# Altium footprint library SOP.PcbLib: 214 footprints (part 2 of 14)
Each footprint in its own frame and in the unit in brackets; x right, y up, seen from the top. Pads: shape width x height; smd on the part's side, far side on the other; paste and mask are expansions set on the pad; w line width, h text height; cw(c..) or ccw(c..) is an arc to the next point about the centre after c.
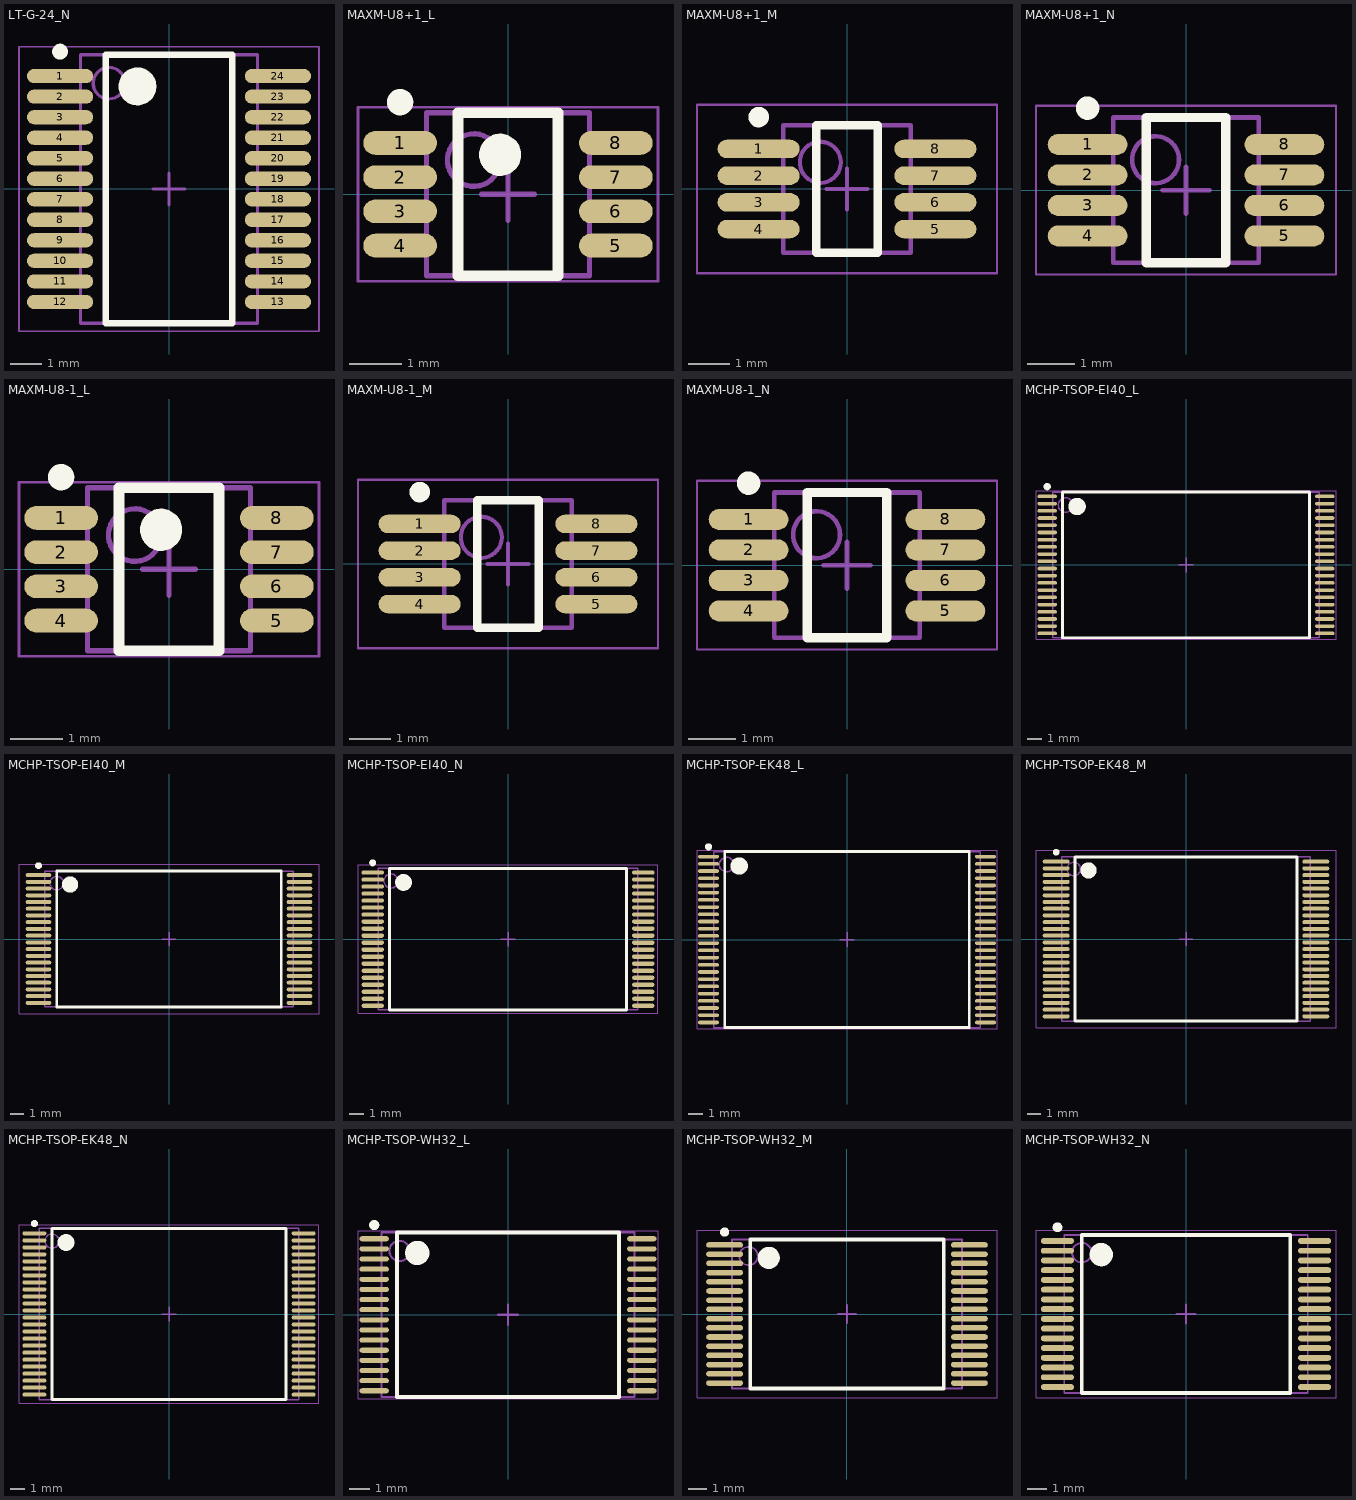
[diagram p1: the footprints below, top view; thin cyan lines are the x and y axes]

## LT-G-24_N [mm] "SOP, 24-Leads, Body 8.5x5.6mm, Pitch 0.65mm, IPC Medium Density"
height 2
pads (24):
  oval 2.1x0.45 smd: 1(-3.45,3.575) 2(-3.45,2.925) 3(-3.45,2.275) 4(-3.45,1.625) 5(-3.45,0.975) 6(-3.45,0.325) 7(-3.45,-0.325) 8(-3.45,-0.975) 9(-3.45,-1.625) 10(-3.45,-2.275) 11(-3.45,-2.925) 12(-3.45,-3.575) 13(3.45,-3.575) 14(3.45,-2.925) 15(3.45,-2.275) 16(3.45,-1.625) 17(3.45,-0.975) 18(3.45,-0.325) 19(3.45,0.325) 20(3.45,0.975) 21(3.45,1.625) 22(3.45,2.275) 23(3.45,2.925) 24(3.45,3.575)
Top Overlay:
  circle w0.25: c-3.45,4.35 r0.125
  circle w0.6: c-1,3.25 r0.3
  lines w0.2: -2,-4.25 -2,4.25 2,4.25 2,-4.25 -2,-4.25
Mechanical 13:
  circle w0.1: c-1.9,3.35 r0.5
  lines w0.1: -2.8,-4.25 -2.8,4.25 2.8,4.25 2.8,-4.25 -2.8,-4.25
Mechanical 15:
  lines w0.05: -4.75,-4.5 -4.75,4.5 4.75,4.5 4.75,-4.5 -4.75,-4.5
  lines w0.1: -0.5,0 0.5,0 ; 0,-0.5 0,0.5
3D body: height 2, standoff 0.05, extent -2.8,-4.25 2.8,4.25

## MAXM-U8+1_L [mm] "SOP, 8-Leads, Body 3x3mm, Pitch 0.65mm, IPC High Density"
height 1.1
pads (8):
  oval 1.4x0.45 smd: 1(-2.05,0.975) 2(-2.05,0.325) 3(-2.05,-0.325) 4(-2.05,-0.975) 5(2.05,-0.975) 6(2.05,-0.325) 7(2.05,0.325) 8(2.05,0.975)
Top Overlay:
  circle w0.4: c-0.15,0.75 r0.2
  circle w0.25: c-2.05,1.75 r0.125
  lines w0.2: -0.95,-1.55 0.95,-1.55 0.95,1.55 -0.95,1.55 -0.95,-1.55
Mechanical 13:
  circle w0.1: c-0.65,0.65 r0.5
  lines w0.1: -1.55,-1.55 1.55,-1.55 1.55,1.55 -1.55,1.55 -1.55,-1.55
Mechanical 15:
  lines w0.05: -2.85,-1.65 2.85,-1.65 2.85,1.65 -2.85,1.65 -2.85,-1.65
  lines w0.1: -0.5,0 0.5,0 ; 0,-0.5 0,0.5
3D body: height 1.1, standoff 0.05, extent -1.55,-1.55 1.55,1.55

## MAXM-U8+1_M [mm] "SOP, 8-Leads, Body 3x3mm, Pitch 0.65mm, IPC Low Density"
height 1.1
pads (8):
  oval 2x0.45 smd: 1(-2.15,0.975) 2(-2.15,0.325) 3(-2.15,-0.325) 4(-2.15,-0.975) 5(2.15,-0.975) 6(2.15,-0.325) 7(2.15,0.325) 8(2.15,0.975)
Top Overlay:
  circle w0.25: c-2.15,1.75 r0.125
  lines w0.2: -0.75,-1.55 -0.75,1.55 0.75,1.55 0.75,-1.55 -0.75,-1.55
Mechanical 13:
  circle w0.1: c-0.65,0.65 r0.5
  lines w0.1: -1.55,-1.55 -1.55,1.55 1.55,1.55 1.55,-1.55 -1.55,-1.55
Mechanical 15:
  lines w0.05: -3.65,-2.05 -3.65,2.05 3.65,2.05 3.65,-2.05 -3.65,-2.05
  lines w0.1: -0.5,0 0.5,0 ; 0,-0.5 0,0.5
3D body: height 1.1, standoff 0.05, extent -1.55,-1.55 1.55,1.55

## MAXM-U8+1_N [mm] "SOP, 8-Leads, Body 3x3mm, Pitch 0.65mm, IPC Medium Density"
height 1.1
pads (8):
  oval 1.7x0.45 smd: 1(-2.1,0.975) 2(-2.1,0.325) 3(-2.1,-0.325) 4(-2.1,-0.975) 5(2.1,-0.975) 6(2.1,-0.325) 7(2.1,0.325) 8(2.1,0.975)
Top Overlay:
  circle w0.25: c-2.1,1.75 r0.125
  lines w0.2: -0.85,-1.55 -0.85,1.55 0.85,1.55 0.85,-1.55 -0.85,-1.55
Mechanical 13:
  circle w0.1: c-0.65,0.65 r0.5
  lines w0.1: -1.55,-1.55 -1.55,1.55 1.55,1.55 1.55,-1.55 -1.55,-1.55
Mechanical 15:
  lines w0.05: -3.2,-1.8 -3.2,1.8 3.2,1.8 3.2,-1.8 -3.2,-1.8
  lines w0.1: -0.5,0 0.5,0 ; 0,-0.5 0,0.5
3D body: height 1.1, standoff 0.05, extent -1.55,-1.55 1.55,1.55

## MAXM-U8-1_L [mm] "SOP, 8-Leads, Body 3x3mm, Pitch 0.65mm, IPC High Density"
height 1.1
pads (8):
  oval 1.4x0.45 smd: 1(-2.05,0.975) 2(-2.05,0.325) 3(-2.05,-0.325) 4(-2.05,-0.975) 5(2.05,-0.975) 6(2.05,-0.325) 7(2.05,0.325) 8(2.05,0.975)
Top Overlay:
  circle w0.25: c-2.05,1.75 r0.125
  circle w0.4: c-0.15,0.75 r0.2
  lines w0.2: -0.95,-1.55 -0.95,1.55 0.95,1.55 0.95,-1.55 -0.95,-1.55
Mechanical 13:
  circle w0.1: c-0.65,0.65 r0.5
  lines w0.1: -1.55,-1.55 -1.55,1.55 1.55,1.55 1.55,-1.55 -1.55,-1.55
Mechanical 15:
  lines w0.05: -2.85,-1.65 -2.85,1.65 2.85,1.65 2.85,-1.65 -2.85,-1.65
  lines w0.1: -0.5,0 0.5,0 ; 0,-0.5 0,0.5
3D body: height 1.1, standoff 0.05, extent -1.55,-1.55 1.55,1.55

## MAXM-U8-1_M [mm] "SOP, 8-Leads, Body 3x3mm, Pitch 0.65mm, IPC Low Density"
height 1.1
pads (8):
  oval 2x0.45 smd: 1(-2.15,0.975) 2(-2.15,0.325) 3(-2.15,-0.325) 4(-2.15,-0.975) 5(2.15,-0.975) 6(2.15,-0.325) 7(2.15,0.325) 8(2.15,0.975)
Top Overlay:
  circle w0.25: c-2.15,1.75 r0.125
  lines w0.2: -0.75,-1.55 0.75,-1.55 0.75,1.55 -0.75,1.55 -0.75,-1.55
Mechanical 13:
  circle w0.1: c-0.65,0.65 r0.5
  lines w0.1: -1.55,-1.55 1.55,-1.55 1.55,1.55 -1.55,1.55 -1.55,-1.55
Mechanical 15:
  lines w0.05: -3.65,-2.05 3.65,-2.05 3.65,2.05 -3.65,2.05 -3.65,-2.05
  lines w0.1: -0.5,0 0.5,0 ; 0,-0.5 0,0.5
3D body: height 1.1, standoff 0.05, extent -1.55,-1.55 1.55,1.55

## MAXM-U8-1_N [mm] "SOP, 8-Leads, Body 3x3mm, Pitch 0.65mm, IPC Medium Density"
height 1.1
pads (8):
  oval 1.7x0.45 smd: 1(-2.1,0.975) 2(-2.1,0.325) 3(-2.1,-0.325) 4(-2.1,-0.975) 5(2.1,-0.975) 6(2.1,-0.325) 7(2.1,0.325) 8(2.1,0.975)
Top Overlay:
  circle w0.25: c-2.1,1.75 r0.125
  lines w0.2: -0.85,-1.55 -0.85,1.55 0.85,1.55 0.85,-1.55 -0.85,-1.55
Mechanical 13:
  circle w0.1: c-0.65,0.65 r0.5
  lines w0.1: -1.55,-1.55 -1.55,1.55 1.55,1.55 1.55,-1.55 -1.55,-1.55
Mechanical 15:
  lines w0.05: -3.2,-1.8 -3.2,1.8 3.2,1.8 3.2,-1.8 -3.2,-1.8
  lines w0.1: -0.5,0 0.5,0 ; 0,-0.5 0,0.5
3D body: height 1.1, standoff 0.05, extent -1.55,-1.55 1.55,1.55

## MCHP-TSOP-EI40_L [mm] "SOP, 40-Leads, Body 18.4x10mm, Pitch 0.5mm, IPC High Density"
height 1.2
pads (40):
  oval 1.35x0.25 smd: 1(-9.625,4.75) 2(-9.625,4.25) 3(-9.625,3.75) 4(-9.625,3.25) 5(-9.625,2.75) 6(-9.625,2.25) 7(-9.625,1.75) 8(-9.625,1.25) 9(-9.625,0.75) 10(-9.625,0.25) 11(-9.625,-0.25) 12(-9.625,-0.75) 13(-9.625,-1.25) 14(-9.625,-1.75) 15(-9.625,-2.25) 16(-9.625,-2.75) 17(-9.625,-3.25) 18(-9.625,-3.75) 19(-9.625,-4.25) 20(-9.625,-4.75) 21(9.625,-4.75) 22(9.625,-4.25) 23(9.625,-3.75) 24(9.625,-3.25) 25(9.625,-2.75) 26(9.625,-2.25) 27(9.625,-1.75) 28(9.625,-1.25) 29(9.625,-0.75) 30(9.625,-0.25) 31(9.625,0.25) 32(9.625,0.75) 33(9.625,1.25) 34(9.625,1.75) 35(9.625,2.25) 36(9.625,2.75) 37(9.625,3.25) 38(9.625,3.75) 39(9.625,4.25) 40(9.625,4.75)
Top Overlay:
  circle w0.25: c-9.625,5.425 r0.125
  circle w0.6: c-7.55,4.05 r0.3
  lines w0.2: -8.55,-5.05 -8.55,5.05 8.55,5.05 8.55,-5.05 -8.55,-5.05
Mechanical 13:
  circle w0.1: c-8.35,4.15 r0.5
  lines w0.1: -9.25,-5.05 -9.25,5.05 9.25,5.05 9.25,-5.05 -9.25,-5.05
Mechanical 15:
  lines w0.05: -10.4,-5.15 -10.4,5.15 10.4,5.15 10.4,-5.15 -10.4,-5.15
  lines w0.1: -0.5,0 0.5,0 ; 0,-0.5 0,0.5
3D body: height 1.2, standoff 0.05, extent -9.25,-5.05 9.25,5.05

## MCHP-TSOP-EI40_M [mm] "SOP, 40-Leads, Body 18.4x10mm, Pitch 0.5mm, IPC Low Density"
height 1.2
pads (40):
  oval 1.9x0.3 smd: 1(-9.7,4.75) 2(-9.7,4.25) 3(-9.7,3.75) 4(-9.7,3.25) 5(-9.7,2.75) 6(-9.7,2.25) 7(-9.7,1.75) 8(-9.7,1.25) 9(-9.7,0.75) 10(-9.7,0.25) 11(-9.7,-0.25) 12(-9.7,-0.75) 13(-9.7,-1.25) 14(-9.7,-1.75) 15(-9.7,-2.25) 16(-9.7,-2.75) 17(-9.7,-3.25) 18(-9.7,-3.75) 19(-9.7,-4.25) 20(-9.7,-4.75) 21(9.7,-4.75) 22(9.7,-4.25) 23(9.7,-3.75) 24(9.7,-3.25) 25(9.7,-2.75) 26(9.7,-2.25) 27(9.7,-1.75) 28(9.7,-1.25) 29(9.7,-0.75) 30(9.7,-0.25) 31(9.7,0.25) 32(9.7,0.75) 33(9.7,1.25) 34(9.7,1.75) 35(9.7,2.25) 36(9.7,2.75) 37(9.7,3.25) 38(9.7,3.75) 39(9.7,4.25) 40(9.7,4.75)
Top Overlay:
  circle w0.6: c-7.35,4.05 r0.3
  circle w0.25: c-9.7,5.45 r0.125
  lines w0.2: -8.35,-5.05 8.35,-5.05 8.35,5.05 -8.35,5.05 -8.35,-5.05
Mechanical 13:
  circle w0.1: c-8.35,4.15 r0.5
  lines w0.1: -9.25,-5.05 9.25,-5.05 9.25,5.05 -9.25,5.05 -9.25,-5.05
Mechanical 15:
  lines w0.05: -11.15,-5.55 11.15,-5.55 11.15,5.55 -11.15,5.55 -11.15,-5.55
  lines w0.1: -0.5,0 0.5,0 ; 0,-0.5 0,0.5
3D body: height 1.2, standoff 0.05, extent -9.25,-5.05 9.25,5.05

## MCHP-TSOP-EI40_N [mm] "SOP, 40-Leads, Body 18.4x10mm, Pitch 0.5mm, IPC Medium Density"
height 1.2
pads (40):
  oval 1.6x0.3 smd: 1(-9.65,4.75) 2(-9.65,4.25) 3(-9.65,3.75) 4(-9.65,3.25) 5(-9.65,2.75) 6(-9.65,2.25) 7(-9.65,1.75) 8(-9.65,1.25) 9(-9.65,0.75) 10(-9.65,0.25) 11(-9.65,-0.25) 12(-9.65,-0.75) 13(-9.65,-1.25) 14(-9.65,-1.75) 15(-9.65,-2.25) 16(-9.65,-2.75) 17(-9.65,-3.25) 18(-9.65,-3.75) 19(-9.65,-4.25) 20(-9.65,-4.75) 21(9.65,-4.75) 22(9.65,-4.25) 23(9.65,-3.75) 24(9.65,-3.25) 25(9.65,-2.75) 26(9.65,-2.25) 27(9.65,-1.75) 28(9.65,-1.25) 29(9.65,-0.75) 30(9.65,-0.25) 31(9.65,0.25) 32(9.65,0.75) 33(9.65,1.25) 34(9.65,1.75) 35(9.65,2.25) 36(9.65,2.75) 37(9.65,3.25) 38(9.65,3.75) 39(9.65,4.25) 40(9.65,4.75)
Top Overlay:
  circle w0.6: c-7.45,4.05 r0.3
  circle w0.25: c-9.65,5.45 r0.125
  lines w0.2: -8.45,-5.05 8.45,-5.05 8.45,5.05 -8.45,5.05 -8.45,-5.05
Mechanical 13:
  circle w0.1: c-8.35,4.15 r0.5
  lines w0.1: -9.25,-5.05 9.25,-5.05 9.25,5.05 -9.25,5.05 -9.25,-5.05
Mechanical 15:
  lines w0.05: -10.7,-5.3 10.7,-5.3 10.7,5.3 -10.7,5.3 -10.7,-5.3
  lines w0.1: -0.5,0 0.5,0 ; 0,-0.5 0,0.5
3D body: height 1.2, standoff 0.05, extent -9.25,-5.05 9.25,5.05

## MCHP-TSOP-EK48_L [mm] "SOP, 48-Leads, Body 18.4x12mm, Pitch 0.5mm, IPC High Density"
height 1.2
pads (48):
  oval 1.45x0.25 smd: 1(-9.6,5.75) 2(-9.6,5.25) 3(-9.6,4.75) 4(-9.6,4.25) 5(-9.6,3.75) 6(-9.6,3.25) 7(-9.6,2.75) 8(-9.6,2.25) 9(-9.6,1.75) 10(-9.6,1.25) 11(-9.6,0.75) 12(-9.6,0.25) 13(-9.6,-0.25) 14(-9.6,-0.75) 15(-9.6,-1.25) 16(-9.6,-1.75) 17(-9.6,-2.25) 18(-9.6,-2.75) 19(-9.6,-3.25) 20(-9.6,-3.75) 21(-9.6,-4.25) 22(-9.6,-4.75) 23(-9.6,-5.25) 24(-9.6,-5.75) 25(9.6,-5.75) 26(9.6,-5.25) 27(9.6,-4.75) 28(9.6,-4.25) 29(9.6,-3.75) 30(9.6,-3.25) 31(9.6,-2.75) 32(9.6,-2.25) 33(9.6,-1.75) 34(9.6,-1.25) 35(9.6,-0.75) 36(9.6,-0.25) 37(9.6,0.25) 38(9.6,0.75) 39(9.6,1.25) 40(9.6,1.75) 41(9.6,2.25) 42(9.6,2.75) 43(9.6,3.25) 44(9.6,3.75) 45(9.6,4.25) 46(9.6,4.75) 47(9.6,5.25) 48(9.6,5.75)
Top Overlay:
  circle w0.6: c-7.475,5.1 r0.3
  circle w0.25: c-9.6,6.425 r0.125
  lines w0.2: -8.475,-6.1 8.475,-6.1 8.475,6.1 -8.475,6.1 -8.475,-6.1
Mechanical 13:
  circle w0.1: c-8.35,5.2 r0.5
  lines w0.1: -9.25,-6.1 9.25,-6.1 9.25,6.1 -9.25,6.1 -9.25,-6.1
Mechanical 15:
  lines w0.05: -10.4,-6.2 10.4,-6.2 10.4,6.2 -10.4,6.2 -10.4,-6.2
  lines w0.1: -0.5,0 0.5,0 ; 0,-0.5 0,0.5
3D body: height 1.2, standoff 0.05, extent -9.25,-6.1 9.25,6.1

## MCHP-TSOP-EK48_M [mm] "SOP, 48-Leads, Body 18.4x12mm, Pitch 0.5mm, IPC Low Density,"
height 1.2
pads (48):
  oval 2x0.3 smd: 1(-9.65,5.75) 2(-9.65,5.25) 3(-9.65,4.75) 4(-9.65,4.25) 5(-9.65,3.75) 6(-9.65,3.25) 7(-9.65,2.75) 8(-9.65,2.25) 9(-9.65,1.75) 10(-9.65,1.25) 11(-9.65,0.75) 12(-9.65,0.25) 13(-9.65,-0.25) 14(-9.65,-0.75) 15(-9.65,-1.25) 16(-9.65,-1.75) 17(-9.65,-2.25) 18(-9.65,-2.75) 19(-9.65,-3.25) 20(-9.65,-3.75) 21(-9.65,-4.25) 22(-9.65,-4.75) 23(-9.65,-5.25) 24(-9.65,-5.75) 25(9.65,-5.75) 26(9.65,-5.25) 27(9.65,-4.75) 28(9.65,-4.25) 29(9.65,-3.75) 30(9.65,-3.25) 31(9.65,-2.75) 32(9.65,-2.25) 33(9.65,-1.75) 34(9.65,-1.25) 35(9.65,-0.75) 36(9.65,-0.25) 37(9.65,0.25) 38(9.65,0.75) 39(9.65,1.25) 40(9.65,1.75) 41(9.65,2.25) 42(9.65,2.75) 43(9.65,3.25) 44(9.65,3.75) 45(9.65,4.25) 46(9.65,4.75) 47(9.65,5.25) 48(9.65,5.75)
Top Overlay:
  circle w0.6: c-7.25,5.1 r0.3
  circle w0.25: c-9.65,6.45 r0.125
  lines w0.2: -8.25,-6.1 8.25,-6.1 8.25,6.1 -8.25,6.1 -8.25,-6.1
Mechanical 13:
  circle w0.1: c-8.35,5.2 r0.5
  lines w0.1: -9.25,-6.1 9.25,-6.1 9.25,6.1 -9.25,6.1 -9.25,-6.1
Mechanical 15:
  lines w0.05: -11.15,-6.6 11.15,-6.6 11.15,6.6 -11.15,6.6 -11.15,-6.6
  lines w0.1: -0.5,0 0.5,0 ; 0,-0.5 0,0.5
3D body: height 1.2, standoff 0.05, extent -9.25,-6.1 9.25,6.1

## MCHP-TSOP-EK48_N [mm] "SOP, 48-Leads, Body 18.4x12mm, Pitch 0.5mm, IPC Medium Density,"
height 1.2
pads (48):
  oval 1.7x0.3 smd: 1(-9.6,5.75) 2(-9.6,5.25) 3(-9.6,4.75) 4(-9.6,4.25) 5(-9.6,3.75) 6(-9.6,3.25) 7(-9.6,2.75) 8(-9.6,2.25) 9(-9.6,1.75) 10(-9.6,1.25) 11(-9.6,0.75) 12(-9.6,0.25) 13(-9.6,-0.25) 14(-9.6,-0.75) 15(-9.6,-1.25) 16(-9.6,-1.75) 17(-9.6,-2.25) 18(-9.6,-2.75) 19(-9.6,-3.25) 20(-9.6,-3.75) 21(-9.6,-4.25) 22(-9.6,-4.75) 23(-9.6,-5.25) 24(-9.6,-5.75) 25(9.6,-5.75) 26(9.6,-5.25) 27(9.6,-4.75) 28(9.6,-4.25) 29(9.6,-3.75) 30(9.6,-3.25) 31(9.6,-2.75) 32(9.6,-2.25) 33(9.6,-1.75) 34(9.6,-1.25) 35(9.6,-0.75) 36(9.6,-0.25) 37(9.6,0.25) 38(9.6,0.75) 39(9.6,1.25) 40(9.6,1.75) 41(9.6,2.25) 42(9.6,2.75) 43(9.6,3.25) 44(9.6,3.75) 45(9.6,4.25) 46(9.6,4.75) 47(9.6,5.25) 48(9.6,5.75)
Top Overlay:
  circle w0.6: c-7.35,5.1 r0.3
  circle w0.25: c-9.6,6.45 r0.125
  lines w0.2: -8.35,-6.1 8.35,-6.1 8.35,6.1 -8.35,6.1 -8.35,-6.1
Mechanical 13:
  circle w0.1: c-8.35,5.2 r0.5
  lines w0.1: -9.25,-6.1 9.25,-6.1 9.25,6.1 -9.25,6.1 -9.25,-6.1
Mechanical 15:
  lines w0.05: -10.7,-6.35 10.7,-6.35 10.7,6.35 -10.7,6.35 -10.7,-6.35
  lines w0.1: -0.5,0 0.5,0 ; 0,-0.5 0,0.5
3D body: height 1.2, standoff 0.05, extent -9.25,-6.1 9.25,6.1

## MCHP-TSOP-WH32_L [mm] "SOP, 32-Leads, Body 12.4x8mm, Pitch 0.5mm, IPC High Density"
height 1.2
pads (32):
  oval 1.45x0.25 smd: 1(-6.6,3.75) 2(-6.6,3.25) 3(-6.6,2.75) 4(-6.6,2.25) 5(-6.6,1.75) 6(-6.6,1.25) 7(-6.6,0.75) 8(-6.6,0.25) 9(-6.6,-0.25) 10(-6.6,-0.75) 11(-6.6,-1.25) 12(-6.6,-1.75) 13(-6.6,-2.25) 14(-6.6,-2.75) 15(-6.6,-3.25) 16(-6.6,-3.75) 17(6.6,-3.75) 18(6.6,-3.25) 19(6.6,-2.75) 20(6.6,-2.25) 21(6.6,-1.75) 22(6.6,-1.25) 23(6.6,-0.75) 24(6.6,-0.25) 25(6.6,0.25) 26(6.6,0.75) 27(6.6,1.25) 28(6.6,1.75) 29(6.6,2.25) 30(6.6,2.75) 31(6.6,3.25) 32(6.6,3.75)
Top Overlay:
  circle w0.6: c-4.475,3.05 r0.3
  circle w0.25: c-6.6,4.425 r0.125
  lines w0.2: -5.475,-4.05 5.475,-4.05 5.475,4.05 -5.475,4.05 -5.475,-4.05
Mechanical 13:
  circle w0.1: c-5.35,3.15 r0.5
  lines w0.1: -6.25,-4.05 6.25,-4.05 6.25,4.05 -6.25,4.05 -6.25,-4.05
Mechanical 15:
  lines w0.05: -7.4,-4.15 7.4,-4.15 7.4,4.15 -7.4,4.15 -7.4,-4.15
  lines w0.1: -0.5,0 0.5,0 ; 0,-0.5 0,0.5
3D body: height 1.2, standoff 0.05, extent -6.25,-4.05 6.25,4.05

## MCHP-TSOP-WH32_M [mm] "SOP, 32-Leads, Body 12.4x8mm, Pitch 0.5mm, IPC Low Density"
height 1.2
pads (32):
  oval 2x0.3 smd: 1(-6.65,3.75) 2(-6.65,3.25) 3(-6.65,2.75) 4(-6.65,2.25) 5(-6.65,1.75) 6(-6.65,1.25) 7(-6.65,0.75) 8(-6.65,0.25) 9(-6.65,-0.25) 10(-6.65,-0.75) 11(-6.65,-1.25) 12(-6.65,-1.75) 13(-6.65,-2.25) 14(-6.65,-2.75) 15(-6.65,-3.25) 16(-6.65,-3.75) 17(6.65,-3.75) 18(6.65,-3.25) 19(6.65,-2.75) 20(6.65,-2.25) 21(6.65,-1.75) 22(6.65,-1.25) 23(6.65,-0.75) 24(6.65,-0.25) 25(6.65,0.25) 26(6.65,0.75) 27(6.65,1.25) 28(6.65,1.75) 29(6.65,2.25) 30(6.65,2.75) 31(6.65,3.25) 32(6.65,3.75)
Top Overlay:
  circle w0.6: c-4.25,3.05 r0.3
  circle w0.25: c-6.65,4.45 r0.125
  lines w0.2: -5.25,-4.05 5.25,-4.05 5.25,4.05 -5.25,4.05 -5.25,-4.05
Mechanical 13:
  circle w0.1: c-5.35,3.15 r0.5
  lines w0.1: -6.25,-4.05 6.25,-4.05 6.25,4.05 -6.25,4.05 -6.25,-4.05
Mechanical 15:
  lines w0.05: -8.15,-4.55 8.15,-4.55 8.15,4.55 -8.15,4.55 -8.15,-4.55
  lines w0.1: -0.5,0 0.5,0 ; 0,-0.5 0,0.5
3D body: height 1.2, standoff 0.05, extent -6.25,-4.05 6.25,4.05

## MCHP-TSOP-WH32_N [mm] "SOP, 32-Leads, Body 12.4x8mm, Pitch 0.5mm, IPC Medium Density"
height 1.2
pads (32):
  oval 1.7x0.3 smd: 1(-6.6,3.75) 2(-6.6,3.25) 3(-6.6,2.75) 4(-6.6,2.25) 5(-6.6,1.75) 6(-6.6,1.25) 7(-6.6,0.75) 8(-6.6,0.25) 9(-6.6,-0.25) 10(-6.6,-0.75) 11(-6.6,-1.25) 12(-6.6,-1.75) 13(-6.6,-2.25) 14(-6.6,-2.75) 15(-6.6,-3.25) 16(-6.6,-3.75) 17(6.6,-3.75) 18(6.6,-3.25) 19(6.6,-2.75) 20(6.6,-2.25) 21(6.6,-1.75) 22(6.6,-1.25) 23(6.6,-0.75) 24(6.6,-0.25) 25(6.6,0.25) 26(6.6,0.75) 27(6.6,1.25) 28(6.6,1.75) 29(6.6,2.25) 30(6.6,2.75) 31(6.6,3.25) 32(6.6,3.75)
Top Overlay:
  circle w0.6: c-4.35,3.05 r0.3
  circle w0.25: c-6.6,4.45 r0.125
  lines w0.2: -5.35,-4.05 5.35,-4.05 5.35,4.05 -5.35,4.05 -5.35,-4.05
Mechanical 13:
  circle w0.1: c-5.35,3.15 r0.5
  lines w0.1: -6.25,-4.05 6.25,-4.05 6.25,4.05 -6.25,4.05 -6.25,-4.05
Mechanical 15:
  lines w0.05: -7.7,-4.3 7.7,-4.3 7.7,4.3 -7.7,4.3 -7.7,-4.3
  lines w0.1: -0.5,0 0.5,0 ; 0,-0.5 0,0.5
3D body: height 1.2, standoff 0.05, extent -6.25,-4.05 6.25,4.05